# Altium footprint library PcbLib1.PcbLib: 12 footprints
Each footprint in its own frame and in the unit in brackets; x right, y up, seen from the top. Pads: shape width x height; smd on the part's side, far side on the other; paste and mask are expansions set on the pad; w line width, h text height; cw(c..) or ccw(c..) is an arc to the next point about the centre after c.
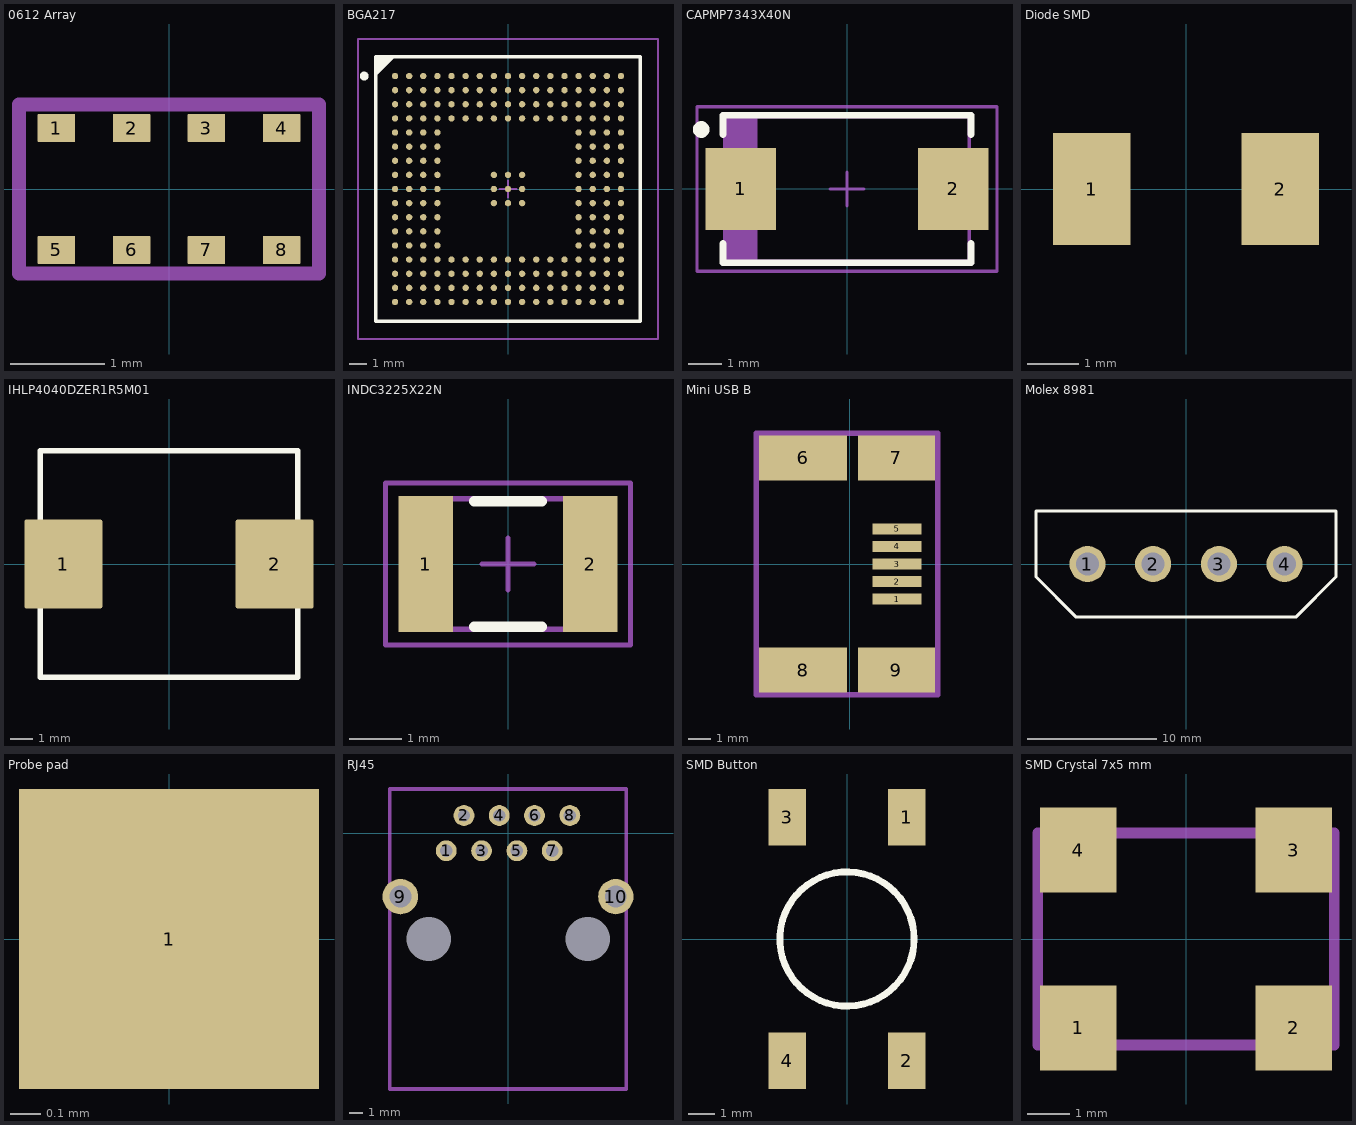
[diagram p0: the footprints below, top view; thin cyan lines are the x and y axes]

## 0612 Array [mm] "0612 Capacitor Array"
height 0.9
pads (8):
  rrect5% 0.4x0.3 smd: 1(-1.2,0.65) 2(-0.4,0.65) 3(0.4,0.65) 4(1.2,0.65) 5(-1.2,-0.65) 6(-0.4,-0.65) 7(0.4,-0.65) 8(1.2,-0.65)
Mechanical 15:
  lines w0.15: -1.6,-0.9 1.6,-0.9 1.6,0.9 -1.6,0.9 -1.6,-0.9

## BGA217 [mm] "BGA, 217-Leads, Body 15,0x15,0mm,  Pitch 0,80mm"
height 1.4
pads (217):
  round 0.36 smd: A1(-6.4,6.4) A2(-5.6,6.4) A3(-4.8,6.4) A4(-4,6.4) A5(-3.2,6.4) A6(-2.4,6.4) A7(-1.6,6.4) A8(-0.8,6.4) A9(0,6.4) A10(0.8,6.4) A11(1.6,6.4) A12(2.4,6.4) A13(3.2,6.4) A14(4,6.4) A15(4.8,6.4) A16(5.6,6.4) A17(6.4,6.4) B1(-6.4,5.6) B2(-5.6,5.6) B3(-4.8,5.6) B4(-4,5.6) B5(-3.2,5.6) B6(-2.4,5.6) B7(-1.6,5.6) B8(-0.8,5.6) B9(0,5.6) B10(0.8,5.6) B11(1.6,5.6) B12(2.4,5.6) B13(3.2,5.6) B14(4,5.6) B15(4.8,5.6) B16(5.6,5.6) B17(6.4,5.6) C1(-6.4,4.8) C2(-5.6,4.8) C3(-4.8,4.8) C4(-4,4.8) C5(-3.2,4.8) C6(-2.4,4.8) C7(-1.6,4.8) C8(-0.8,4.8) C9(0,4.8) C10(0.8,4.8) C11(1.6,4.8) C12(2.4,4.8) C13(3.2,4.8) C14(4,4.8) C15(4.8,4.8) C16(5.6,4.8) C17(6.4,4.8) D1(-6.4,4) D2(-5.6,4) D3(-4.8,4) D4(-4,4) D5(-3.2,4) D6(-2.4,4) D7(-1.6,4) D8(-0.8,4) D9(0,4) D10(0.8,4) D11(1.6,4) D12(2.4,4) D13(3.2,4) D14(4,4) D15(4.8,4) D16(5.6,4) D17(6.4,4) E1(-6.4,3.2) E2(-5.6,3.2) E3(-4.8,3.2) E4(-4,3.2) E14(4,3.2) E15(4.8,3.2) E16(5.6,3.2) E17(6.4,3.2) F1(-6.4,2.4) F2(-5.6,2.4) F3(-4.8,2.4) F4(-4,2.4) F14(4,2.4) F15(4.8,2.4) F16(5.6,2.4) F17(6.4,2.4) G1(-6.4,1.6) G2(-5.6,1.6) G3(-4.8,1.6) G4(-4,1.6) G14(4,1.6) G15(4.8,1.6) G16(5.6,1.6) G17(6.4,1.6) H1(-6.4,0.8) H2(-5.6,0.8) H3(-4.8,0.8) H4(-4,0.8) H8(-0.8,0.8) H9(0,0.8) H10(0.8,0.8) H14(4,0.8) H15(4.8,0.8) H16(5.6,0.8) H17(6.4,0.8) J1(-6.4,0) J2(-5.6,0) J3(-4.8,0) J4(-4,0) J8(-0.8,0) J9(0,0) J10(0.8,0) J14(4,0) J15(4.8,0) J16(5.6,0) J17(6.4,0) K1(-6.4,-0.8) K2(-5.6,-0.8) K3(-4.8,-0.8) K4(-4,-0.8) K8(-0.8,-0.8) K9(0,-0.8) K10(0.8,-0.8) K14(4,-0.8) K15(4.8,-0.8) K16(5.6,-0.8) K17(6.4,-0.8) L1(-6.4,-1.6) L2(-5.6,-1.6) L3(-4.8,-1.6) L4(-4,-1.6) L14(4,-1.6) L15(4.8,-1.6) L16(5.6,-1.6) L17(6.4,-1.6) M1(-6.4,-2.4) M2(-5.6,-2.4) M3(-4.8,-2.4) M4(-4,-2.4) M14(4,-2.4) M15(4.8,-2.4) M16(5.6,-2.4) M17(6.4,-2.4) N1(-6.4,-3.2) N2(-5.6,-3.2) N3(-4.8,-3.2) N4(-4,-3.2) N14(4,-3.2) N15(4.8,-3.2) N16(5.6,-3.2) N17(6.4,-3.2) P1(-6.4,-4) P2(-5.6,-4) P3(-4.8,-4) P4(-4,-4) P5(-3.2,-4) P6(-2.4,-4) P7(-1.6,-4) P8(-0.8,-4) P9(0,-4) P10(0.8,-4) P11(1.6,-4) P12(2.4,-4) P13(3.2,-4) P14(4,-4) P15(4.8,-4) P16(5.6,-4) P17(6.4,-4) R1(-6.4,-4.8) R2(-5.6,-4.8) R3(-4.8,-4.8) R4(-4,-4.8) R5(-3.2,-4.8) R6(-2.4,-4.8) R7(-1.6,-4.8) R8(-0.8,-4.8) R9(0,-4.8) R10(0.8,-4.8) R11(1.6,-4.8) R12(2.4,-4.8) R13(3.2,-4.8) R14(4,-4.8) R15(4.8,-4.8) R16(5.6,-4.8) R17(6.4,-4.8) T1(-6.4,-5.6) T2(-5.6,-5.6) T3(-4.8,-5.6) T4(-4,-5.6) T5(-3.2,-5.6) T6(-2.4,-5.6) T7(-1.6,-5.6) T8(-0.8,-5.6) T9(0,-5.6) T10(0.8,-5.6) T11(1.6,-5.6) T12(2.4,-5.6) T13(3.2,-5.6) T14(4,-5.6) T15(4.8,-5.6) T16(5.6,-5.6) T17(6.4,-5.6) U1(-6.4,-6.4) U2(-5.6,-6.4) U3(-4.8,-6.4) U4(-4,-6.4) U5(-3.2,-6.4) U6(-2.4,-6.4) U7(-1.6,-6.4) U8(-0.8,-6.4) U9(0,-6.4) U10(0.8,-6.4) U11(1.6,-6.4) U12(2.4,-6.4) U13(3.2,-6.4) U14(4,-6.4) U15(4.8,-6.4) U16(5.6,-6.4) U17(6.4,-6.4)
Top Overlay:
  circle w0.25: c-8.15,6.4 r0.125
  region: -6.5,7.5 -7.5,6.5 -7.5,7.5
  lines w0.2: -7.5,6.5 -6.5,7.5 ; -7.5,-7.5 7.5,-7.5 7.5,7.5 -7.5,7.5 -7.5,-7.5
Mechanical 13:
  lines w0.1: -7.5,-7.5 7.5,-7.5 7.5,7.5 -7.5,7.5 -7.5,-7.5
Mechanical 15:
  lines w0.1: -0.5,0 0.5,0 ; 0,-0.5 0,0.5 ; -8.5,-8.5 8.5,-8.5 8.5,8.5 -8.5,8.5 -8.5,-8.5
3D body: height 1.4, standoff 0.36, extent -7.5,-7.5 7.5,7.5

## CAPMP7343X40N [mm] "Molded Capacitor, 2-Leads, Body 7,3x4,3mm, IPC Medium Density"
height 4
pads (2):
  rect 2.1x2.45 smd: 1(-3.175,0) 2(3.175,0)
Top Overlay:
  circle w0.25: c-4.35,1.775 r0.125
  lines w0.2: -3.7,-1.625 -3.7,-2.2 3.7,-2.2 3.7,-1.625 ; -3.7,1.625 -3.7,2.2 3.7,2.2 3.7,1.625
Mechanical 13:
  rectangle: -3.65,-2.15 -2.668,2.15
  lines w0.1: -3.65,-2.15 -3.65,2.15 3.65,2.15 3.65,-2.15 -3.65,-2.15
Mechanical 15:
  lines w0.1: -0.5,0 0.5,0 ; 0,-0.5 0,0.5 ; -4.475,-2.45 -4.475,2.45 4.475,2.45 4.475,-2.45 -4.475,-2.45
3D body: height 4, standoff 0, extent -3.65,-2.15 3.65,2.15

## Diode SMD [mm] "DO-214AA"
height 2.5
pads (2):
  rect 1.52x2.18 smd: 1(-1.84,0) 2(1.84,0)

## IHLP4040DZER1R5M01 [mm] "1.5 uH SMD Inductor"
height 11.5
pads (2):
  rrect5% 3.5x4 smd: 1(-4.75,0) 2(4.75,0)
Top Overlay:
  lines w0.254: -5.8,-5.1 -5.8,0 -5.8,5.1 0,5.1 5.8,5.1 5.8,0 5.8,-5.1 0,-5.1 -5.8,-5.1

## INDC3225X22N [mm] "Chip Inductor, 2-Leads, Body 3,2x2,5mm, IPC Medium Density"
height 2.2
pads (2):
  rect 1.05x2.6 smd: 1(-1.575,0) 2(1.575,0)
Top Overlay:
  lines w0.2: -0.65,-1.2 0.65,-1.2 ; -0.65,1.2 0.65,1.2
Mechanical 13:
  lines w0.1: -1.6,-1.25 1.6,-1.25 1.6,1.25 -1.6,1.25 -1.6,-1.25
Mechanical 15:
  lines w0.1: -0.5,0 0.5,0 ; 0,-0.5 0,0.5 ; -2.35,-1.55 2.35,-1.55 2.35,1.55 -2.35,1.55 -2.35,-1.55
3D body: height 2.2, standoff 0, extent -1.6,-1.25 1.6,1.25

## Mini USB B [mm]
pads (9):
  rect 2.25x0.5 smd: 1(2.15,-1.6) 2(2.15,-0.8) 3(2.15,0) 4(2.15,0.8) 5(2.15,1.6)
  rect 4x2.05 smd: 6(-2.125,4.825) 8(-2.125,-4.825)
  rect 3.5x2.05 smd: 7(2.125,4.825) 9(2.125,-4.825)
Mechanical 1:
  lines w0.254: -4.25,5.9 -4.25,-3.7 -4.25,-5.95 4,-5.95 4,5.95 -4.25,5.95

## Molex 8981 [mil] "Molex 8981 power connector"
pads (4):
  round 110 hole 70.08: 1(-300,0) 2(-100,0) 3(100,0) 4(300,0)
Top Overlay:
  lines w10: -456.69,-39.37 -456.69,0 -456.69,161.42 0,161.42 456.69,161.42 456.69,0 456.69,-39.37 334.65,-161.42 0,-161.42 -334.65,-161.42 -456.69,-39.37

## Probe pad [mm]
pads (1):
  rect 1x1 smd: 1(0,0)

## RJ45 [mm]
pads (12):
  round 1.5 hole 0.889: 1(-4.445,-1.27) 2(-3.175,1.27) 3(-1.905,-1.27) 4(-0.635,1.27) 5(0.635,-1.27) 6(1.905,1.27) 7(3.175,-1.27) 8(4.445,1.27)
  oval 2.559x2.54 hole 1.57: 9(-7.75,-4.57)
  round 2.54 hole 1.57: 10(7.75,-4.57)
  round 0 hole 3.2 unplated: c(-5.72,-7.62) d(5.72,-7.62)
Mechanical 1:
  lines w0.254: -8.509,-18.415 -8.509,0 -8.509,3.175 0,3.175 8.509,3.175 8.509,0 8.509,-18.415 0,-18.415 -8.509,-18.415

## SMD Button [mm] "SMD Button from Farnell"
pads (4):
  rect 1.4x2.1 smd: 1(2.23,4.55) 2(2.23,-4.55) 3(-2.23,4.55) 4(-2.23,-4.55)
Top Overlay:
  circle w0.254: c0,0 r2.506

## SMD Crystal 7x5 mm [mm] "SMD Crystal from TXC"
height 1.3
pads (4):
  rect 1.8x2 smd: 1(-2.54,-2.1) 2(2.54,-2.1) 3(2.54,2.1) 4(-2.54,2.1)
Mechanical 1:
  lines w0.254: -3.5,-2.5 0,-2.5 3.5,-2.5 3.5,0 3.5,2.5 0,2.5 -3.5,2.5 -3.5,0 -3.5,-2.5